# EAGLE library part TMC5160-TA (library TMC5160-TA)
Universal high voltage controller for two-phase bipolar stepper motor. TQFP48-EP
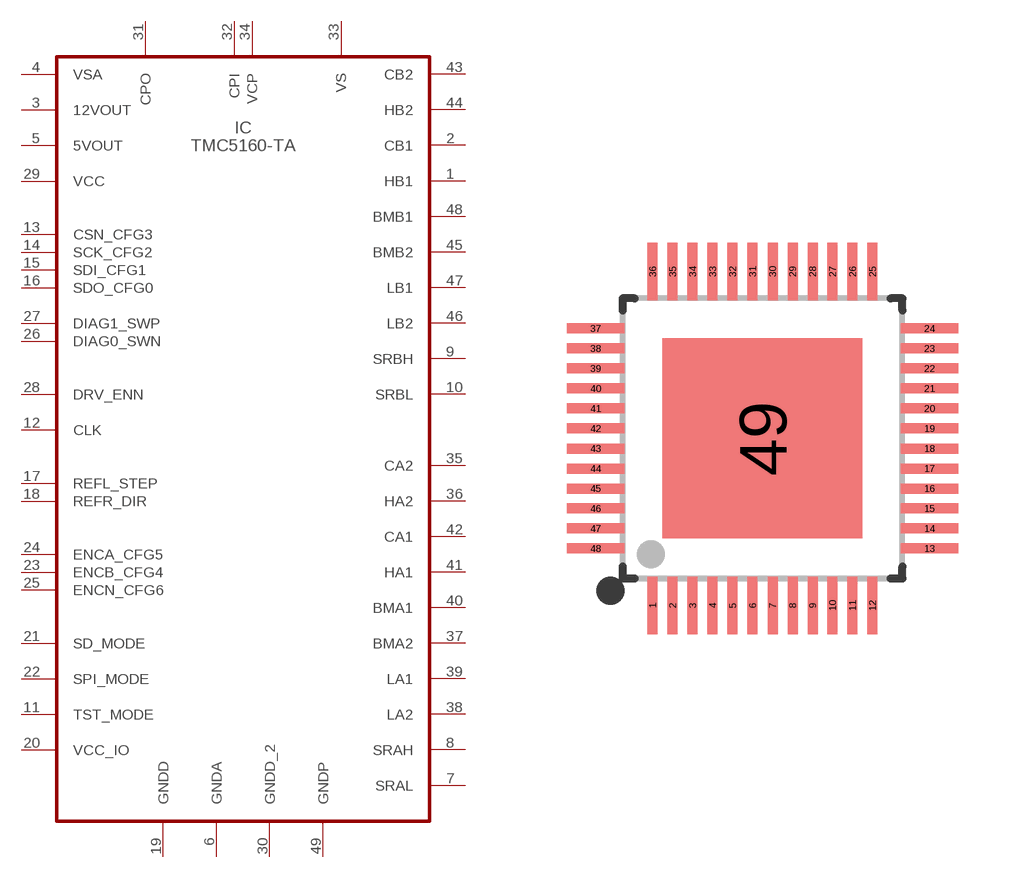
[diagram p0: symbol with the pads of TQFP48-EP; footprint TQFP48-EP]

Designator prefix IC

## TMC5160-TA (Availability: Unavailable; Description: Motor Driver, Stepper, Tqfp-48; MF: Trinamic Motion; MP: TMC5160-TA; Package: TQFP-48 Trinamic Motion; Price: None)  [TQFP48-EP]
1  HB1  out
2  CB1  in
3  12VOUT
4  VSA  pwr
5  5VOUT
6  GNDA  pwr
7  SRAL  in
8  SRAH  in
9  SRBH  in
10  SRBL  in
11  TST_MODE  in
12  CLK  in
13  CSN_CFG3  in
14  SCK_CFG2  in
15  SDI_CFG1  in
16  SDO_CFG0  out
17  REFL_STEP  in
18  REFR_DIR  in
19  GNDD  pwr
20  VCC_IO  pwr
21  SD_MODE  in
22  SPI_MODE  in
23  ENCB_CFG4  in
24  ENCA_CFG5  in
25  ENCN_CFG6  in
26  DIAG0_SWN
27  DIAG1_SWP
28  DRV_ENN  in
29  VCC  pwr
30  GNDD_2  pwr
31  CPO  in
32  CPI  in
33  VS  pwr
34  VCP  in
35  CA2  in
36  HA2  out
37  BMA2  in
38  LA2  out
39  LA1  out
40  BMA1  in
41  HA1  out
42  CA1  in
43  CB2  in
44  HB2  out
45  BMB2  in
46  LB2  out
47  LB1  out
48  BMB1  in
49  GNDP  pwr

## Footprint TQFP48-EP (pad centres in mm)
smd 0.25 x 1.45: 1 -2.75,-4.175; 2 -2.25,-4.175; 3 -1.75,-4.175; 4 -1.25,-4.175; 5 -0.75,-4.175; 6 -0.25,-4.175; 7 0.25,-4.175; 8 0.75,-4.175; 9 1.25,-4.175; 10 1.75,-4.175; 11 2.25,-4.175; 12 2.75,-4.175; 25 2.75,4.175; 26 2.25,4.175; 27 1.75,4.175; 28 1.25,4.175; 29 0.75,4.175; 30 0.25,4.175; 31 -0.25,4.175; 32 -0.75,4.175; 33 -1.25,4.175; 34 -1.75,4.175; 35 -2.25,4.175; 36 -2.75,4.175
smd 1.45 x 0.25: 13 4.175,-2.75; 14 4.175,-2.25; 15 4.175,-1.75; 16 4.175,-1.25; 17 4.175,-0.75; 18 4.175,-0.25; 19 4.175,0.25; 20 4.175,0.75; 21 4.175,1.25; 22 4.175,1.75; 23 4.175,2.25; 24 4.175,2.75; 37 -4.175,2.75; 38 -4.175,2.25; 39 -4.175,1.75; 40 -4.175,1.25; 41 -4.175,0.75; 42 -4.175,0.25; 43 -4.175,-0.25; 44 -4.175,-0.75; 45 -4.175,-1.25; 46 -4.175,-1.75; 47 -4.175,-2.25; 48 -4.175,-2.75
smd 5 x 5: 49 0,0